# Altium integrated library koruza-compute-module-board.IntLib: 22 symbols
Pins are listed as number, name and electrical type; pins without a type are passive.

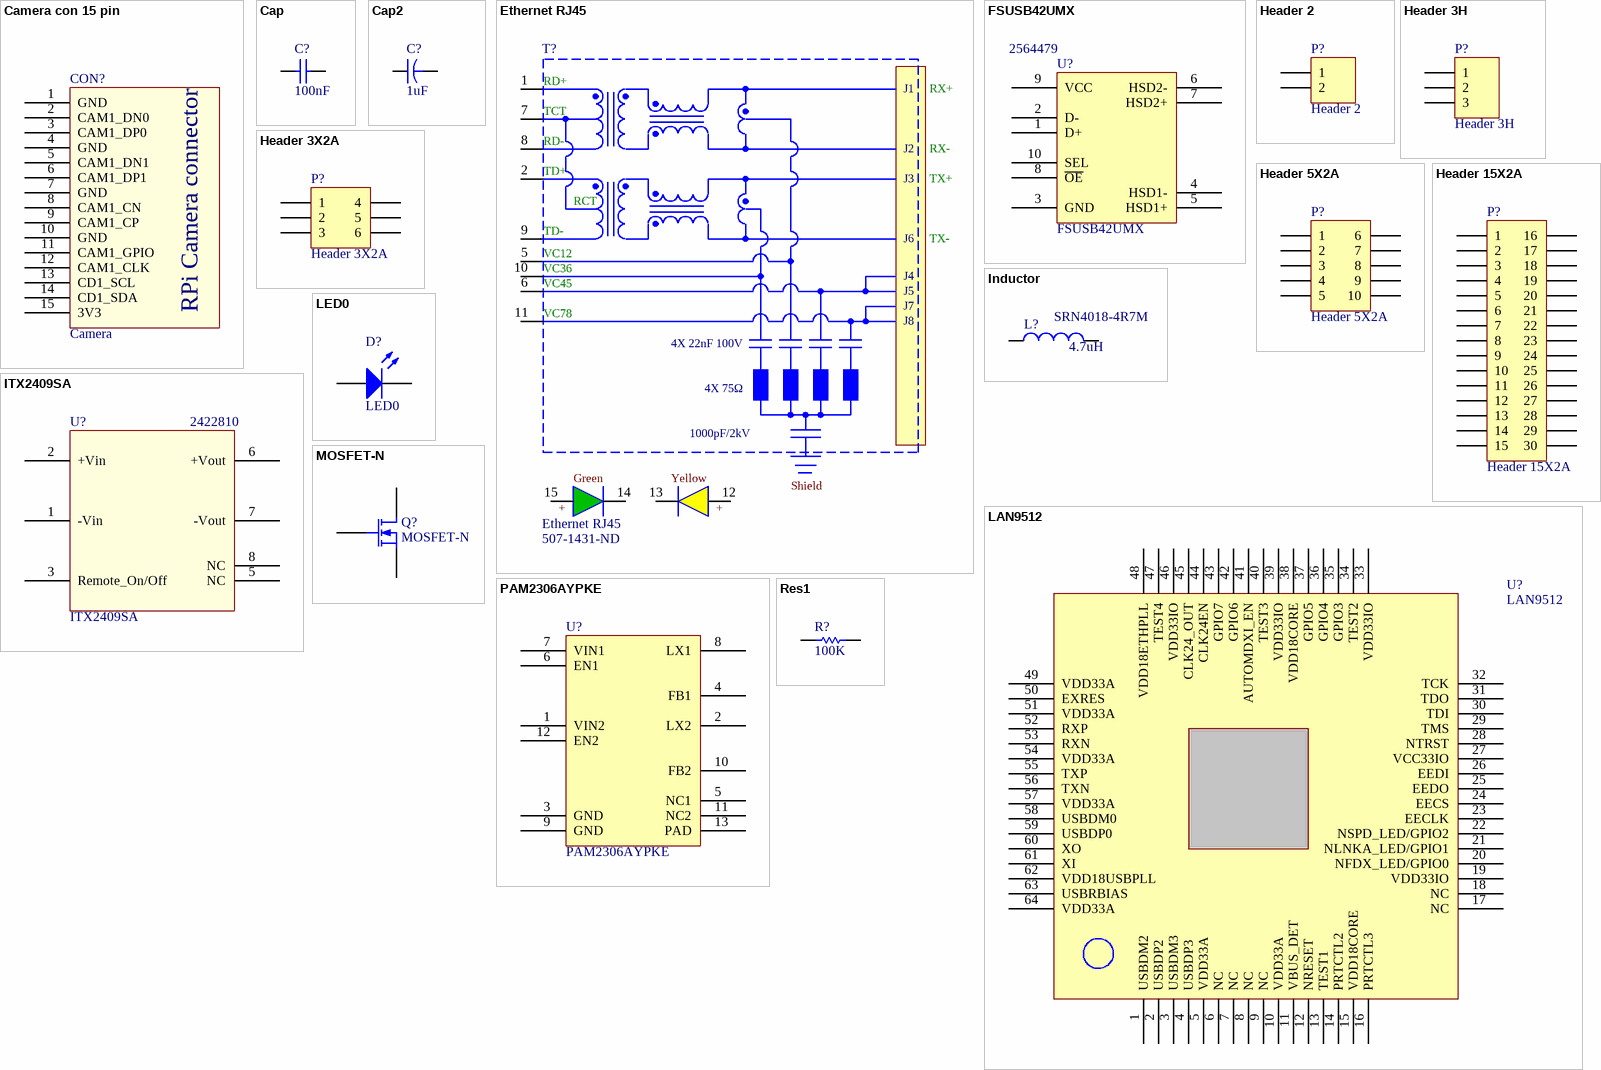
[diagram p0: symbols Camera con 15 pin to Res1]

## Camera con 15 pin
designator CON?, comment Camera
Raspberry Pi camera connector; Value: Camera
footprint 1-1734248-5 (flat cable connector)
pins: 1 GND, 2 CAM1_DN0, 3 CAM1_DP0, 4 GND, 5 CAM1_DN1, 6 CAM1_DP1, 7 GND, 8 CAM1_CN, 9 CAM1_CP, 10 GND, 11 CAM1_GPIO, 12 CAM1_CLK, 13 CD1_SCL, 14 CD1_SDA, 15 3V3
text: RPi Camera connector

## Cap
designator C?, comment 100nF
Capacitor; Published: 8-Jun-2000; LatestRevisionDate: 17-Jul-2002; LatestRevisionNote: Re-released for DXP Platform.; PackageReference: RAD-0.3; Publisher: Altium Limited; PackageDescription: Radial Cap, Thru-Hole; 2 Leads; 0.3 in Pin Spacing; Value: 100nF
footprint CAP0603
simulation model CAP (Capacitor)
signal-integrity model Cap
pins: 1, 2

## Cap2
designator C?  value 1uF  (hidden comment: Cap2)
Capacitor; Published: 23-Sep-2002; PackageReference: CAPR5-4X5; Publisher: Altium Limited; PackageDescription: Capacitor; 2 Leads
footprint CAP0805
simulation model CAP (Capacitor)
signal-integrity model Cap
pins: 1, 2

## Ethernet RJ45
designator T?  Supplier Part Number 1: 507-1431-ND
1 Port RJ45 Magjack Connector Through Hole 10/100 Base-T, AutoMDIX, Power over Ethernet (PoE); Value: 0826-1L1T-57-F; Manifacturer: Bel Fuse Inc.; Manifacturer code: 0826-1L1T-57-F; Supplier: Digi-Key; Supplier code: 507-1431-ND; Supplier 1: Digi-Key
footprint 0826-1L1T-57-F (Ethernet connector)
pins: 1 RD+, 2 TD+, 5 VC12, 6 VC45, 7 CT, 8 RD-, 9 TD-, 10 VC36, 11 VC78, 12, 13, 14, 15
text: J1; RX+; TCT; J2; RX-; J3; TX+; RCT; J6; TX-; J4; J5; J7; J8; 4X 22nF 100V; 4X 75Ω; 1000pF/2kV; Green; Yellow; Shield; +

## FSUSB42UMX
designator U?  Supplier Part Number 1: 2564479
Bi-directional, low-power, high-speed, USB2.0 (480Mbps) switch; Value: FSUSB42UMX; Supplier 1: Farnell
footprint MO-187 (MSOP, 10-Leads, Body 3.00x3.00mm, Pitch 0.50mm, IPC Medium Density)
pins: 1 D+, 2 D-, 3 GND, 4 HSD1-, 5 HSD1+, 6 HSD2-, 7 HSD2+, 8 ~{OE}, 9 VCC, 10 SEL

## Header 2
designator P?
Header, 2-Pin; LatestRevisionDate: 17-Jul-2002; LatestRevisionNote: Re-released for DXP Platform.; Publisher: Altium Limited
footprint HDR1X2 (Connector; Header; 2 Position)
signal-integrity model Connector
pins: 1, 2

## Header 3H
designator P?
Header, 3-Pin, Right Angle; LatestRevisionDate: 17-Jul-2002; LatestRevisionNote: Re-released for DXP Platform.; Publisher: Altium Limited
footprint HDR1X3H (Connector; Header; 3 Position; Right Angle)
signal-integrity model Connector
pins: 1, 2, 3

## Header 3X2A
designator P?
Header, 3-Pin, Dual row; LatestRevisionDate: 17-Jul-2002; LatestRevisionNote: Re-released for DXP Platform.; Publisher: Altium Limited
footprint IDC6
signal-integrity model Connector
pins: 1, 2, 3, 4, 5, 6

## Header 5X2A
designator P?
Header, 5-Pin, Dual row; LatestRevisionDate: 17-Jul-2002; LatestRevisionNote: Re-released for DXP Platform.; Publisher: Altium Limited
footprint IDC10
signal-integrity model Connector
pins: 1, 2, 3, 4, 5, 6, 7, 8, 9, 10

## Header 15X2A
designator P?
Header, 15-Pin, Dual row; LatestRevisionDate: 17-Jul-2002; LatestRevisionNote: Re-released for DXP Platform.; Publisher: Altium Limited
footprint HDR2X15_CEN (Connector; Header; 15x2 Position)
signal-integrity model Connector
pins: 1, 2, 3, 4, 5, 6, 7, 8, 9, 10, 11, 12, 13, 14, 15, 16, 17, 18, 19, 20, 21, 22, 23, 24, 25, 26, 27, 28, 29, 30

## Inductor
designator L?, comment SRN4018-4R7M  value 4.7uH
Code_IEC: 1005; Published: 8-Jun-2000; LatestRevisionDate: 29-May-2009; LatestRevisionNote: IPC-7351 Footprint Added.; PackageReference: 0402-A; Publisher: Altium Limited; PackageDescription: Chip Inductor; Code_JEITA: 0402
footprint 0402-A (Chip Inductor, Body 1.0x0.5mm, IPC High Density)
footprint INDC1608L (Chip Inductor, Body 1.6x0.8mm, IPC High Density)
footprint 2029 (Chip Inductor, Body 2.0x1.2mm, IPC High Density)
footprint 0603 (Chip Inductor, Body 0.6x0.3mm, IPC High Density)
footprint INDC3216 (Chip Inductor, Body 3.2x1.6mm, IPC High Density)
footprint INDC4532 (Chip Inductor, Body 4.5x3.2mm, IPC High Density)
simulation model INDUCTOR (Inductor)
signal-integrity model Inductor
footprint INDP4040X18N
pins: 1, 2

## ITX2409SA
designator U?  Supplier Part Number 1: 2422810
Isolated Board Mount DC/DC Converter, 2:1 Input, Fixed, 1 Output, 18 V, 36 V, 6 W, 9 V; Value: ITX2409SA; Supplier 1: Farnell
footprint DCDC_M1
pins: 1 -Vin (oc), 2 +Vin (oc), 3 Remote_On/Off (oc), 5 NC (oc), 6 +Vout (oc), 7 -Vout (oc), 8 NC (oc)

## LAN9512
designator U?
USB 2.0 Hub and 10/100  Ethernet Controller; Value: LAN9512
footprint QFN64
pins: 1 USBDM2, 2 USBDP2, 3 USBDM3, 4 USBDP3, 5 VDD33A, 6 NC, 7 NC, 8 NC, 9 NC, 10 VDD33A, 11 VBUS_DET, 12 NRESET, 13 TEST1, 14 PRTCTL2, 15 VDD18CORE, 16 PRTCTL3, 17 NC, 18 NC, 19 VDD33IO, 20 NFDX_LED/GPIO0, 21 NLNKA_LED/GPIO1, 22 NSPD_LED/GPIO2, 23 EECLK, 24 EECS, 25 EEDO, 26 EEDI, 27 VCC33IO, 28 NTRST, 29 TMS, 30 TDI, 31 TDO, 32 TCK, 33 VDD33IO, 34 TEST2, 35 GPIO3, 36 GPIO4, 37 GPIO5, 38 VDD18CORE, 39 VDD33IO, 40 TEST3, 41 AUTOMDXI_EN, 42 GPIO6, 43 GPIO7, 44 CLK24EN, 45 CLK24_OUT, 46 VDD33IO, 47 TEST4, 48 VDD18ETHPLL, 49 VDD33A, 50 EXRES, 51 VDD33A, 52 RXP, 53 RXN, 54 VDD33A, 55 TXP, 56 TXN, 57 VDD33A, 58 USBDM0, 59 USBDP0, 60 XO, 61 XI, 62 VDD18USBPLL, 63 USBRBIAS, 64 VDD33A

## LED0
designator D?
Typical INFRARED GaAs LED; Published: 8-Jun-2000; LatestRevisionDate: 08-Jul-2005; LatestRevisionNote: Mech Layer 1 removed.; PackageReference: LED-0; Publisher: Altium Limited; PackageDescription: LED; 2 Leads
footprint LED-0 (LED; 2 Leads)
simulation model LED0 (Diode)
footprint DIODE0603
pins: 1 A, 2 K

## MOSFET-N
designator Q?
N-Channel MOSFET; Published: 8-Jun-2000; LatestRevisionDate: 17-Jul-2002; LatestRevisionNote: Re-released for DXP Platform.; PackageVersion: 1995/1996; PackageReference: E3; Publisher: Altium Limited; PackageDescription: TO, Flat Index; 3 In-Line, Axial Leads; Body Dia. 4.6mm; Lead Dia. 0.5 mm (max)
footprint DMG1012T-7 (SOT23, 3-Leads, Body 1.60x1.60mm, Pitch 0.50mm, IPC Medium Density)
simulation model NMOS (MOSFET-N)
pins: 1 D, 2 G, 3 S

## PAM2306AYPKE
designator U?
DUAL HIGH-EFFICIENCY PWM STEP-DOWN DC-DC CONVERTER; Value: PAM2306AYPKE
footprint WDFN12L (Small 12L WDFN3x3 Package)
pins: 1 VIN2, 2 LX2, 3 GND, 4 FB1, 5 NC1, 6 EN1, 7 VIN1, 8 LX1, 9 GND, 10 FB2, 11 NC2, 12 EN2, 13 PAD

## Res1
designator R?, comment 100K
Resistor; Published: 8-Jun-2000; LatestRevisionDate: 17-Jul-2002; LatestRevisionNote: Re-released for DXP Platform.; PackageReference: AXIAL-0.3; Publisher: Altium Limited; PackageDescription: Axial Device, Thru-Hole; 2 Leads; 0.3 in Pin Spacing; Value: 100K
footprint RES0603
simulation model RESISTOR (Resistor)
signal-integrity model Res
pins: 1, 2

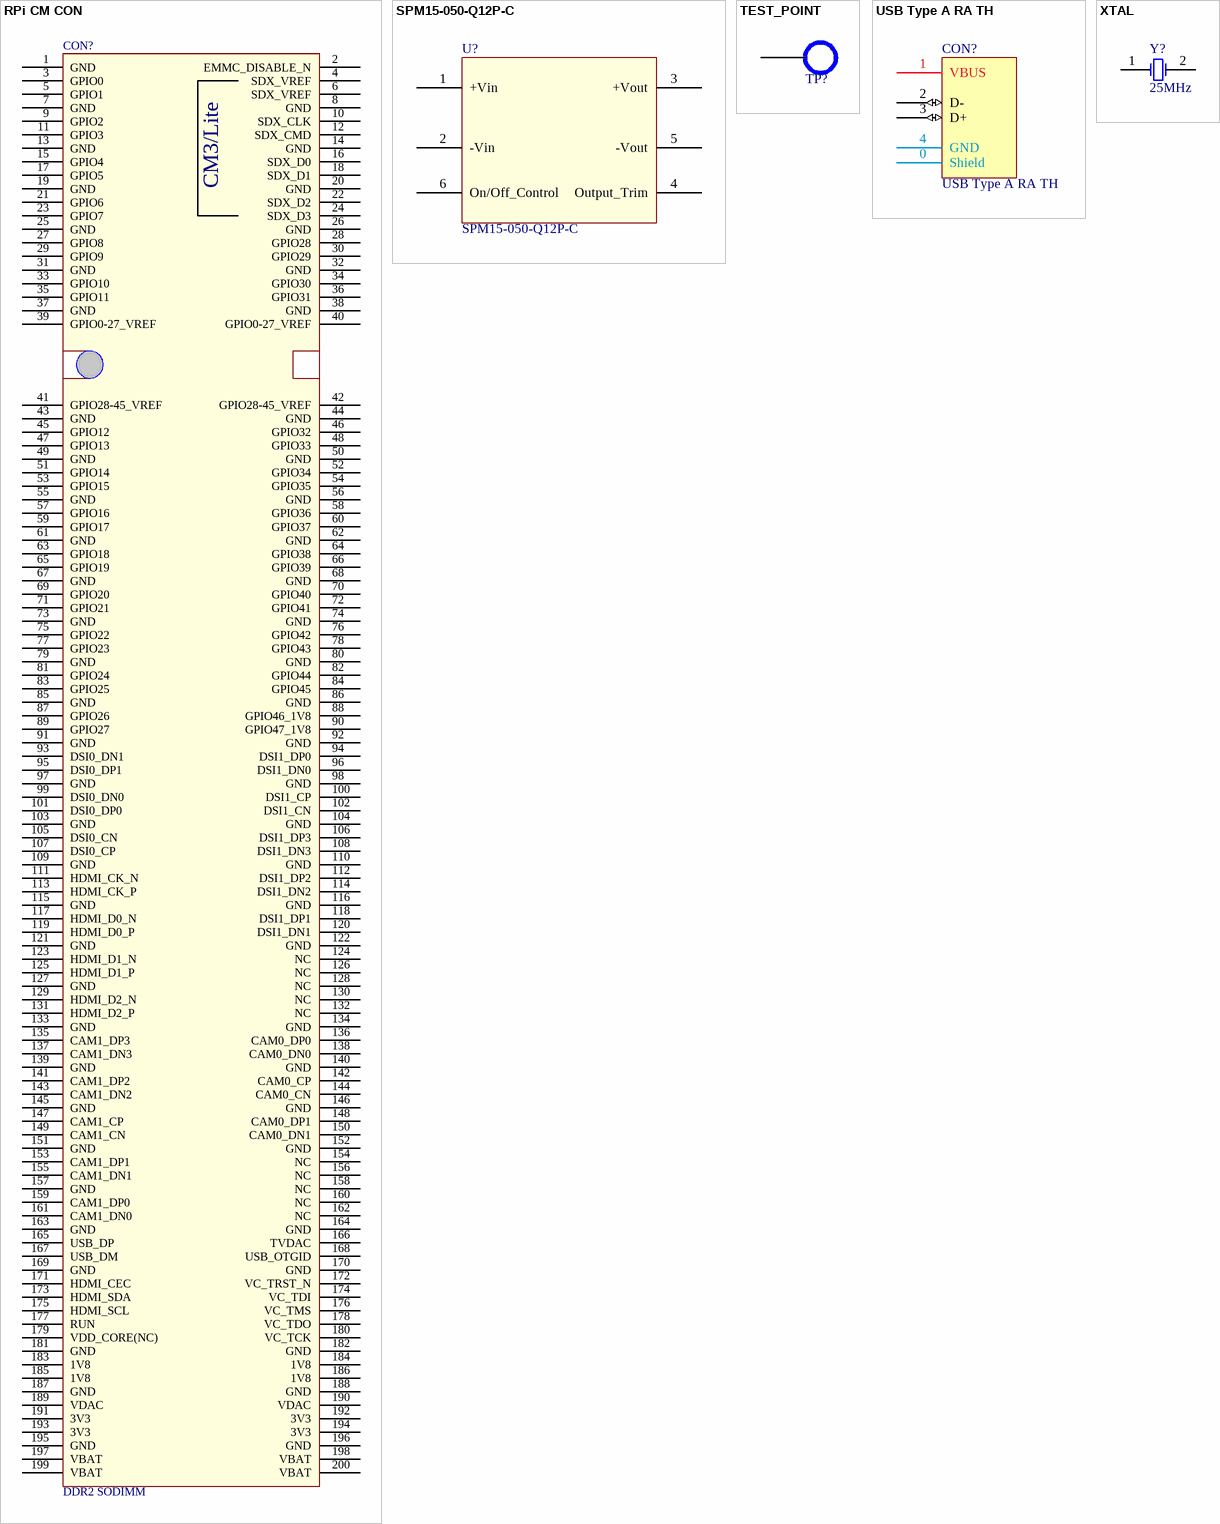
[diagram p1: symbols RPi CM CON to XTAL]

## RPi CM CON
designator CON?, comment DDR2 SODIMM
DDR2 SODIMM connector for Raspberry Pi compute module 1/3/3-Lite; Value: DDR2 SODIMM
footprint BTB-SM0-6-2V200
pins: 1 GND, 2 EMMC_DISABLE_N, 3 GPIO0, 4 SDX_VREF, 5 GPIO1, 6 SDX_VREF, 7 GND, 8 GND, 9 GPIO2, 10 SDX_CLK, 11 GPIO3, 12 SDX_CMD, 13 GND, 14 GND, 15 GPIO4, 16 SDX_D0, 17 GPIO5, 18 SDX_D1, 19 GND, 20 GND, 21 GPIO6, 22 SDX_D2, 23 GPIO7, 24 SDX_D3, 25 GND, 26 GND, 27 GPIO8, 28 GPIO28, 29 GPIO9, 30 GPIO29, 31 GND, 32 GND, 33 GPIO10, 34 GPIO30, 35 GPIO11, 36 GPIO31, 37 GND, 38 GND, 39 GPIO0-27_VREF, 40 GPIO0-27_VREF, 41 GPIO28-45_VREF, 42 GPIO28-45_VREF, 43 GND, 44 GND, 45 GPIO12, 46 GPIO32, 47 GPIO13, 48 GPIO33, 49 GND, 50 GND, 51 GPIO14, 52 GPIO34, 53 GPIO15, 54 GPIO35, 55 GND, 56 GND, 57 GPIO16, 58 GPIO36, 59 GPIO17, 60 GPIO37, 61 GND, 62 GND, 63 GPIO18, 64 GPIO38, 65 GPIO19, 66 GPIO39, 67 GND, 68 GND, 69 GPIO20, 70 GPIO40, 71 GPIO21, 72 GPIO41, 73 GND, 74 GND, 75 GPIO22, 76 GPIO42, 77 GPIO23, 78 GPIO43, 79 GND, 80 GND, 81 GPIO24, 82 GPIO44, 83 GPIO25, 84 GPIO45, 85 GND, 86 GND, 87 GPIO26, 88 GPIO46_1V8, 89 GPIO27, 90 GPIO47_1V8, 91 GND, 92 GND, 93 DSI0_DN1, 94 DSI1_DP0, 95 DSI0_DP1, 96 DSI1_DN0, 97 GND, 98 GND, 99 DSI0_DN0, 100 DSI1_CP, 101 DSI0_DP0, 102 DSI1_CN, 103 GND, 104 GND, 105 DSI0_CN, 106 DSI1_DP3, 107 DSI0_CP, 108 DSI1_DN3, 109 GND, 110 GND, 111 HDMI_CK_N, 112 DSI1_DP2, 113 HDMI_CK_P, 114 DSI1_DN2, 115 GND, 116 GND, 117 HDMI_D0_N, 118 DSI1_DP1, 119 HDMI_D0_P, 120 DSI1_DN1, 121 GND, 122 GND, 123 HDMI_D1_N, 124 NC, 125 HDMI_D1_P, 126 NC, 127 GND, 128 NC, 129 HDMI_D2_N, 130 NC, 131 HDMI_D2_P, 132 NC, 133 GND, 134 GND, 135 CAM1_DP3, 136 CAM0_DP0, 137 CAM1_DN3, 138 CAM0_DN0, 139 GND, 140 GND, 141 CAM1_DP2, 142 CAM0_CP, 143 CAM1_DN2, 144 CAM0_CN, 145 GND, 146 GND, 147 CAM1_CP, 148 CAM0_DP1, 149 CAM1_CN, 150 CAM0_DN1, 151 GND, 152 GND, 153 CAM1_DP1, 154 NC, 155 CAM1_DN1, 156 NC, 157 GND, 158 NC, 159 CAM1_DP0, 160 NC, 161 CAM1_DN0, 162 NC, 163 GND, 164 GND, 165 USB_DP, 166 TVDAC, 167 USB_DM, 168 USB_OTGID, 169 GND, 170 GND, 171 HDMI_CEC, 172 VC_TRST_N, 173 HDMI_SDA, 174 VC_TDI, 175 HDMI_SCL, 176 VC_TMS, 177 RUN, 178 VC_TDO, 179 VDD_CORE(NC), 180 VC_TCK, 181 GND, 182 GND, 183 1V8, 184 1V8, 185 1V8, 186 1V8, 187 GND, 188 GND, 189 VDAC, 190 VDAC, 191 3V3, 192 3V3, 193 3V3, 194 3V3, 195 GND, 196 GND, 197 VBAT, 198 VBAT, 199 VBAT, 200 VBAT
text: CM3/Lite

## SPM15-050-Q12P-C
designator U?
Isolated Board Mount DC/DC Converter, Medical, Fixed, 1 Output, 9 V, 36 V, 15 W, 5 V; Value: SPM15-050-Q12P-C
footprint DCDC_M2
pins: 1 +Vin, 2 -Vin, 3 +Vout, 4 Output_Trim, 5 -Vout, 6 On/Off_Control

## TEST_POINT
designator TP?  (value not drawn)
Test point
footprint TEST_POINT
pins: 1 TP (oc)

## USB Type A RA TH
designator CON?
TE CONNECTIVITY / AMP  292303-1  USB, 2.0 TYPE A, PLUG, CABLE; Implementation: Yes; Ordering code: 1076663; Datasheet: http://www.farnell.com/datasheets/1699414.pdf; Distributor: Farnell; Manifacturer: TE CONNECTIVITY / AMP; Manifacturer code: 292303-1; Value: USB Type A RA TH
footprint microUSB
pins: 0 Shield, 1 VBUS, 2 D- (io), 3 D+ (io), 4 GND

## XTAL
designator Y?, comment 25MHz
Crystal Oscillator; Published: 8-Jun-2000; LatestRevisionDate: 17-Jul-2002; LatestRevisionNote: Re-released for DXP Platform.; PackageReference: R38; Publisher: Altium Limited; PackageDescription: Crystal, Thru-Hole; 2 Leads; Body 3.1 x 8.2 mm (Dia.xH); Value: 25MHz
footprint XTAL_small (3.2 X 2.5 mm SMD crystal)
simulation model XTAL (Spice Subcircuit)
pins: 1 OSC1, 2 OSC2